# EAGLE library part DW01A-G (library DW01A-G)
One Cell Lithium-ion/Polymer Battery Protection IC Source: Datasheet <http://acoptex.com/uploads/DW01A.pdf>
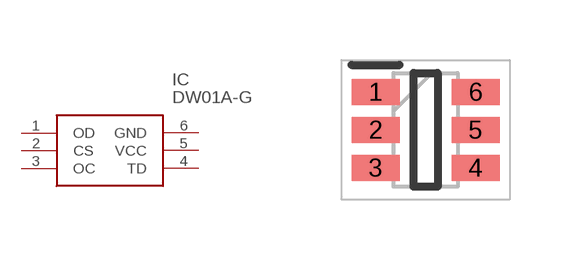
[diagram p0: symbol with the pads of SOT95P280X135-6N; footprint SOT95P280X135-6N]

Designator prefix IC

## DW01A-G (Description: One Cell Lithium-ion/Polymer Battery Protection IC; Height: 1.35mm; Manufacturer_Name: Fortune Semiconductor Corporation; Manufacturer_Part_Number: DW01A-G)  [SOT95P280X135-6N]
1  OD
2  CS
3  OC
4  TD
5  VCC
6  GND

## Footprint SOT95P280X135-6N (pad centres in mm)
DW01A-G
smd 1.2 x 0.65: 1 -1.25,0.95; 2 -1.25,0; 3 -1.25,-0.95; 4 1.25,-0.95; 5 1.25,0; 6 1.25,0.95